# EAGLE library part COCO3-CARTRIDGE-SLOT (library CC-FlexiMIDI-V1R2-12.29.2019)
CoCo 3 Program Pak Cartridge Slot HEADER/SLOT - http://www.GIMEchip.com/ Tandy Radio Shack TRS-80 Color Computer 3 Program Pak Cartridge Slot HEADER/SLOT E.A.G.L.E. Library Part created by John Eric Turner & His Father - sales@gimechip.com <mailto:sales@gimechip.com?subject=Tandy Radio Shack TRS- 80 Color Computer 3 Program Pak Cartridge Slot E.A.G.L.E. Library Part> 40-Pin Header and Slot sharing the same pinout as the Program Pak Cartridge Edge-Card Connector. This library part has been designed to provide a 40-pin cartridge slot connector matching the CoCo's Edge-Card connector (Cartridge Slot). This library part is also useful with the Dragon and other CoCo clones. It is important to note that the CoCo 2 & 3 only provide +5V at the cartridge connector. The CoCo 1 provides +5V AND +/-12V at the cartridge connector. The Dragon provides only +5V and +12V at the cartridge connector. The table below lists all similarities and differences between these machines, relevant to the cartridge slot: PIN # TRS-80 "CoCo 1" Function Tano/Dragon Data "Dragon 32/64" Function TRS-80 "CoCo 2 & 3" Function 1 -12V +12V NC 2 +12V +12V NC 3 HALT* HALT* HALT* 4 NMI* NMI* NMI* 5 RESET* RESET* RESET* 6 E E E 7 Q Q Q 8 CART* CART* CART* 9 +5V +5V +5V 10 D0 D0 D0 11 D1 D1 D1 12 D2 D2 D2 13 D3 D3 D3 14 D4 D4 D4 15 D5 D5 D5 16 D6 D6 D6 17 D7 D7 D7 18 R/W* R/W* R/W* 19 A0 A0 A0 20 A1 A1 A1 21 A2 A2 A2 22 A3 A3 A3 23 A4 A4 A4 24 A5 A5 A5 25 A6 A6 A6 26 A7 A7 A7 27 A8 A8 A8 28 A9 A9 A9 29 A10 A10 A10 30 A11 A11 A11 31 A12 A12 A12 32 CTS* CSEL* CTS* 33 GND GND GND 34 GND GND GND 35 SND SND SND 36 SCS* P2* SCS* 37 A13 A13 A13 38 A14 A14 A14 39 A15 A15 A15 40 SLENB* DSD* SLENB*
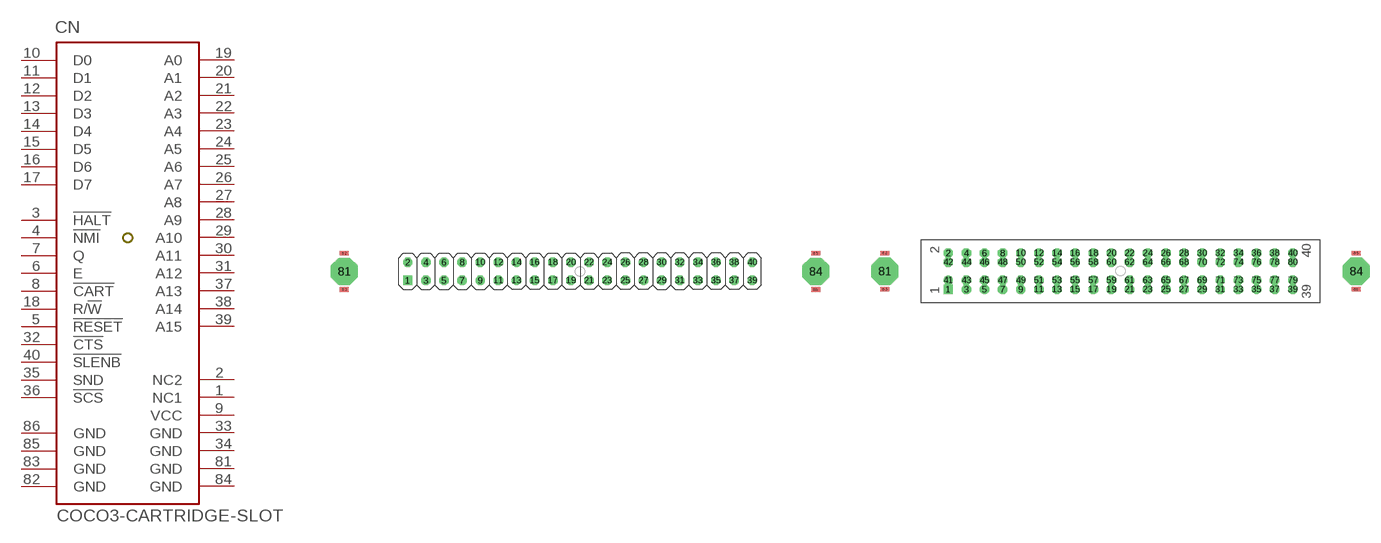
[diagram p1: symbol with the pads of HEADER-2X20-100-STRAIGHT-W/EARS; footprints HEADER-2X20-100-STRAIGHT-W/EARS, HEADER/EDGE-CARD-RECEPTACLE-2X20-100-STRAIGHT-W/EARS]

Designator prefix CN

## COCO3-CARTRIDGE-SLOT-HEADER-40  [HEADER-2X20-100-STRAIGHT-W/EARS]
1  NC1  pwr
2  NC2  pwr
3  !HALT
4  !NMI
5  !RESET
6  E  out
7  Q  out
8  !CART  in
9  VCC  pwr
10  D0
11  D1
12  D2
13  D3
14  D4
15  D5
16  D6
17  D7
18  R/!W
19  A0  out
20  A1  out
21  A2  out
22  A3  out
23  A4  pas
24  A5  out
25  A6  out
26  A7  out
27  A8  out
28  A9  out
29  A10  out
30  A11  out
31  A12  out
32  !CTS  out
33  GND  pwr
34  GND  pwr
35  SND  in
36  !SCS  out
37  A13  out
38  A14  out
39  A15  out
40  !SLENB  in
81  GND  pwr
82  GND  pwr
83  GND  pwr
84  GND  pwr
85  GND  pwr
86  GND  pwr

## COCO3-CARTRIDGE-SLOT-HEADER/SLOT-40  [HEADER/EDGE-CARD-RECEPTACLE-2X20-100-STRAIGHT-W/EARS]
Pads as for HEADER-2X20-100-STRAIGHT-W/EARS

## COCO3-CARTRIDGE-SLOT-SLOT-40  [EDGE-CARD-RECEPTACLE-2X20-100-STRAIGHT-W/EARS]
1  NC1  pwr
2  NC2  pwr
3  !HALT
4  !NMI
5  !RESET
6  E  out
7  Q  out
8  !CART  in
9  VCC  pwr
10  D0
11  D1
12  D2
13  D3
14  D4
15  D5
16  D6
17  D7
18  R/!W
19  A0  out
20  A1  out
21  A2  out
22  A3  out
23  A4  pas
24  A5  out
25  A6  out
26  A7  out
27  A8  out
28  A9  out
29  A10  out
30  A11  out
31  A12  out
32  !CTS  out
33  GND  pwr
34  GND  pwr
35  SND  in
36  !SCS  out
37  A13  out
38  A14  out
39  A15  out
40  !SLENB  in
81  GND  pwr
82  GND  pwr
83  GND  pwr
84  GND  pwr
85  GND  pwr
86  GND  pwr

## COCO3-CARTRIDGE-SLOT-SLOT-40A  [EDGE-CARD-RECEPTACLE-2X20-100-ANGLED-W/EARS]
1  NC1  pwr
2  NC2  pwr
3  !HALT
4  !NMI
5  !RESET
6  E  out
7  Q  out
8  !CART  in
9  VCC  pwr
10  D0
11  D1
12  D2
13  D3
14  D4
15  D5
16  D6
17  D7
18  R/!W
19  A0  out
20  A1  out
21  A2  out
22  A3  out
23  A4  pas
24  A5  out
25  A6  out
26  A7  out
27  A8  out
28  A9  out
29  A10  out
30  A11  out
31  A12  out
32  !CTS  out
33  GND  pwr
34  GND  pwr
35  SND  in
36  !SCS  out
37  A13  out
38  A14  out
39  A15  out
40  !SLENB  in
81  GND  pwr
82  GND  pwr
83  GND  pwr
84  GND  pwr
85  GND  pwr
86  GND  pwr

## COCO3-CARTRIDGE-SLOT-SLOT-40U  [EDGE-CARD-RECEPTACLE-2X20-100-UNIVERSAL-1-W/EARS]
1  NC1  pwr
2  NC2  pwr
3  !HALT
4  !NMI
5  !RESET
6  E  out
7  Q  out
8  !CART  in
9  VCC  pwr
10  D0
11  D1
12  D2
13  D3
14  D4
15  D5
16  D6
17  D7
18  R/!W
19  A0  out
20  A1  out
21  A2  out
22  A3  out
23  A4  pas
24  A5  out
25  A6  out
26  A7  out
27  A8  out
28  A9  out
29  A10  out
30  A11  out
31  A12  out
32  !CTS  out
33  GND  pwr
34  GND  pwr
35  SND  in
36  !SCS  out
37  A13  out
38  A14  out
39  A15  out
40  !SLENB  in
81  GND  pwr
82  GND  pwr
83  GND  pwr
84  GND  pwr
85  GND  pwr
86  GND  pwr

## COCO3-CARTRIDGE-SLOT-SLOT-40U2  [EDGE-CARD-RECEPTACLE-2X20-100-UNIVERSAL2-W/EARS]
1  NC1  pwr
2  NC2  pwr
3  !HALT
4  !NMI
5  !RESET
6  E  out
7  Q  out
8  !CART  in
9  VCC  pwr
10  D0
11  D1
12  D2
13  D3
14  D4
15  D5
16  D6
17  D7
18  R/!W
19  A0  out
20  A1  out
21  A2  out
22  A3  out
23  A4  pas
24  A5  out
25  A6  out
26  A7  out
27  A8  out
28  A9  out
29  A10  out
30  A11  out
31  A12  out
32  !CTS  out
33  GND  pwr
34  GND  pwr
35  SND  in
36  !SCS  out
37  A13  out
38  A14  out
39  A15  out
40  !SLENB  in
81  GND  pwr
82  GND  pwr
83  GND  pwr
84  GND  pwr
85  GND  pwr
86  GND  pwr

## COCO3-CARTRIDGE-SLOT-HEADER/SLOT-40U  [HEADER/EDGE-CARD-RECEPTACLE-2X20-100-UNIVERSAL-W/EARS]
Pads as for EDGE-CARD-RECEPTACLE-2X20-100-UNIVERSAL-1-W/EARS

## COCO3-CARTRIDGE-SLOT-HEADER/SLOT-40U2  [HEADER/EDGE-CARD-RECEPTACLE-2X20-100-UNIVERSAL2-W/EARS]
Pads as for EDGE-CARD-RECEPTACLE-2X20-100-UNIVERSAL2-W/EARS

## COCO3-CARTRIDGE-SLOT-HEADER/SLOT-40A  [HEADER/EDGE-CARD-RECEPTACLE-2X20-100-ANGLED-W/EARS]
1  NC1  pwr
2  NC2  pwr
3  !HALT
4  !NMI
5  !RESET
6  E  out
7  Q  out
8  !CART  in
9  VCC  pwr
10  D0
11  D1
12  D2
13  D3
14  D4
15  D5
16  D6
17  D7
18  R/!W
19  A0  out
20  A1  out
21  A2  out
22  A3  out
23  A4  pas
24  A5  out
25  A6  out
26  A7  out
27  A8  out
28  A9  out
29  A10  out
30  A11  out
31  A12  out
32  !CTS  out
33  GND  pwr
34  GND  pwr
35  SND  in
36  !SCS  out
37  A13  out
38  A14  out
39  A15  out
40  !SLENB  in
81  GND  pwr
82  GND  pwr
83  GND  pwr
84  GND  pwr
85  GND  pwr
86  GND  pwr

## Footprint HEADER-2X20-100-STRAIGHT-W/EARS (pad centres in mm)
CoCo 3 Program Pak Cartridge Header - Straight w/Ears - http://www.RetroZilla.org/ CoCo 3 Program Pak Cartridge Header - Straight w/Ears Copyright ©28 Jan 2013, by: John Eric Turner and his Father. http://www.GIMEchip.com/ sales@GIMEchip.com Licensed to: http://www.RetroZilla.org/ sales@RetroZilla.org RetroZilla.org, LLC component footprints for EAGLE v5.xx. The footprints contained within this library were created by GIMEchip.com and have been licensed to RetroZilla.org, LLC. You may use these footprints in your own projects, however, please take note that we CANNOT guarantee the accuracy of these footprints (nor any part of this library). We make NO guarantees that the footprints or schematic symbols in this library are flawless, and we make no promises of fitness for production, prototyping or any other purpose. These libraries are provided for informational purposes only, and are used at your own discretion. By downloading these libraries, you agree that we cannot be held responsible for faulty PCBs. You should always check the footprints with a 1:1 printout. Neither GIMEchip.com, RetroZilla.org, LLC nor anyone affiliated with same shall be held responsible for any outcome resulting from the usage of these files. Should any errors be found, pleease contact us at one of the above email addresses.
drill 0.813 square: 1 -24.13,-1.27
drill 0.813 octagon: 2 -24.13,1.27; 3 -21.59,-1.27; 4 -21.59,1.27; 5 -19.05,-1.27; 6 -19.05,1.27; 7 -16.51,-1.27; 8 -16.51,1.27; 9 -13.97,-1.27; 10 -13.97,1.27; 11 -11.43,-1.27; 12 -11.43,1.27; 13 -8.89,-1.27; 14 -8.89,1.27; 15 -6.35,-1.27; 16 -6.35,1.27; 17 -3.81,-1.27; 18 -3.81,1.27; 19 -1.27,-1.27; 20 -1.27,1.27; 21 1.27,-1.27; 22 1.27,1.27; 23 3.81,-1.27; 24 3.81,1.27; 25 6.35,-1.27; 26 6.35,1.27; 27 8.89,-1.27; 28 8.89,1.27; 29 11.43,-1.27; 30 11.43,1.27; 31 13.97,-1.27; 32 13.97,1.27; 33 16.51,-1.27; 34 16.51,1.27; 35 19.05,-1.27; 36 19.05,1.27; 37 21.59,-1.27; 38 21.59,1.27; 39 24.13,-1.27; 40 24.13,1.27
drill 2.2 pad 3.81 octagon: 81 -33.02,0; 84 33.02,0
smd 1.27 x 0.635: 82 -33.02,2.54; 83 -33.02,-2.54; 85 33.02,2.54; 86 33.02,-2.54

## Footprint HEADER/EDGE-CARD-RECEPTACLE-2X20-100-STRAIGHT-W/EARS (pad centres in mm)
CoCo 3 Program Pak Cartridge Header/Receptacle (Slot) w/Ears - http://www.RetroZilla.org/ CoCo 3 Program Pak Cartridge Header/Receptacle (Slot) w/Ears This dual-footprint allows the use of either a 40-pin header or a 40-position Slot/Receptacle (Edge-Card Socket). Copyright ©28 Jan 2013, by: John Eric Turner and his Father. http://www.GIMEchip.com/ sales@GIMEchip.com Licensed to: http://www.RetroZilla.org/ sales@RetroZilla.org RetroZilla.org, LLC component footprints for EAGLE v5.xx. The footprints contained within this library were created by GIMEchip.com and have been licensed to RetroZilla.org, LLC. You may use these footprints in your own projects, however, please take note that we CANNOT guarantee the accuracy of these footprints (nor any part of this library). We make NO guarantees that the footprints or schematic symbols in this library are flawless, and we make no promises of fitness for production, prototyping or any other purpose. These libraries are provided for informational purposes only, and are used at your own discretion. By downloading these libraries, you agree that we cannot be held responsible for faulty PCBs. You should always check the footprints with a 1:1 printout. Neither GIMEchip.com, RetroZilla.org, LLC nor anyone affiliated with same shall be held responsible for any outcome resulting from the usage of these files. Should any errors be found, pleease contact us at one of the above email addresses.
drill 0.813 square: 1 -24.13,-2.54
drill 0.813 octagon: 2 -24.13,2.54; 3 -21.59,-2.54; 4 -21.59,2.54; 5 -19.05,-2.54; 6 -19.05,2.54; 7 -16.51,-2.54; 8 -16.51,2.54; 9 -13.97,-2.54; 10 -13.97,2.54; 11 -11.43,-2.54; 12 -11.43,2.54; 13 -8.89,-2.54; 14 -8.89,2.54; 15 -6.35,-2.54; 16 -6.35,2.54; 17 -3.81,-2.54; 18 -3.81,2.54; 19 -1.27,-2.54; 20 -1.27,2.54; 21 1.27,-2.54; 22 1.27,2.54; 23 3.81,-2.54; 24 3.81,2.54; 25 6.35,-2.54; 26 6.35,2.54; 27 8.89,-2.54; 28 8.89,2.54; 29 11.43,-2.54; 30 11.43,2.54; 31 13.97,-2.54; 32 13.97,2.54; 33 16.51,-2.54; 34 16.51,2.54; 35 19.05,-2.54; 36 19.05,2.54; 37 21.59,-2.54; 38 21.59,2.54; 39 24.13,-2.54; 40 24.13,2.54; 42 -24.13,1.27; 43 -21.59,-1.27; 44 -21.59,1.27; 45 -19.05,-1.27; 46 -19.05,1.27; 47 -16.51,-1.27; 48 -16.51,1.27; 49 -13.97,-1.27; 50 -13.97,1.27; 51 -11.43,-1.27; 52 -11.43,1.27; 53 -8.89,-1.27; 54 -8.89,1.27; 55 -6.35,-1.27; 56 -6.35,1.27; 57 -3.81,-1.27; 58 -3.81,1.27; 59 -1.27,-1.27; 60 -1.27,1.27; 61 1.27,-1.27; 62 1.27,1.27; 63 3.81,-1.27; 64 3.81,1.27; 65 6.35,-1.27; 66 6.35,1.27; 67 8.89,-1.27; 68 8.89,1.27; 69 11.43,-1.27; 70 11.43,1.27; 71 13.97,-1.27; 72 13.97,1.27; 73 16.51,-1.27; 74 16.51,1.27; 75 19.05,-1.27; 76 19.05,1.27; 77 21.59,-1.27; 78 21.59,1.27; 79 24.13,-1.27; 80 24.13,1.27
drill 0.813 round: 41 -24.13,-1.27
drill 2.2 pad 3.81 octagon: 81 -33.02,0; 84 33.02,0
smd 1.27 x 0.635: 82 -33.02,2.54; 83 -33.02,-2.54; 85 33.02,2.54; 86 33.02,-2.54

## Footprint EDGE-CARD-RECEPTACLE-2X20-100-STRAIGHT-W/EARS (pad centres in mm)
CoCo 3 Program Pak Cartridge Receptacle/Slot (Edge-Card Socket) - Straight w/Ears - http://www.RetroZilla.org/ CoCo 3 Program Pak Cartridge Receptacle/Slot (Edge-Card Socket) - Straight w/Ears Copyright ©28 Jan 2013, by: John Eric Turner and his Father. http://www.GIMEchip.com/ sales@GIMEchip.com Licensed to: http://www.RetroZilla.org/ sales@RetroZilla.org RetroZilla.org, LLC component footprints for EAGLE v5.xx. The footprints contained within this library were created by GIMEchip.com and have been licensed to RetroZilla.org, LLC. You may use these footprints in your own projects, however, please take note that we CANNOT guarantee the accuracy of these footprints (nor any part of this library). We make NO guarantees that the footprints or schematic symbols in this library are flawless, and we make no promises of fitness for production, prototyping or any other purpose. These libraries are provided for informational purposes only, and are used at your own discretion. By downloading these libraries, you agree that we cannot be held responsible for faulty PCBs. You should always check the footprints with a 1:1 printout. Neither GIMEchip.com, RetroZilla.org, LLC nor anyone affiliated with same shall be held responsible for any outcome resulting from the usage of these files. Should any errors be found, pleease contact us at one of the above email addresses.
drill 0.813 square: 1 -24.13,-2.54
drill 0.813 octagon: 2 -24.13,2.54; 3 -21.59,-2.54; 4 -21.59,2.54; 5 -19.05,-2.54; 6 -19.05,2.54; 7 -16.51,-2.54; 8 -16.51,2.54; 9 -13.97,-2.54; 10 -13.97,2.54; 11 -11.43,-2.54; 12 -11.43,2.54; 13 -8.89,-2.54; 14 -8.89,2.54; 15 -6.35,-2.54; 16 -6.35,2.54; 17 -3.81,-2.54; 18 -3.81,2.54; 19 -1.27,-2.54; 20 -1.27,2.54; 21 1.27,-2.54; 22 1.27,2.54; 23 3.81,-2.54; 24 3.81,2.54; 25 6.35,-2.54; 26 6.35,2.54; 27 8.89,-2.54; 28 8.89,2.54; 29 11.43,-2.54; 30 11.43,2.54; 31 13.97,-2.54; 32 13.97,2.54; 33 16.51,-2.54; 34 16.51,2.54; 35 19.05,-2.54; 36 19.05,2.54; 37 21.59,-2.54; 38 21.59,2.54; 39 24.13,-2.54; 40 24.13,2.54
drill 2.2 pad 3.81 octagon: 81 -33.02,0; 84 33.02,0
smd 1.27 x 0.635: 82 -33.02,-2.54; 83 -33.02,2.54; 85 33.02,2.54; 86 33.02,-2.54

## Footprint EDGE-CARD-RECEPTACLE-2X20-100-ANGLED-W/EARS (pad centres in mm)
CoCo 3 Program Pak Cartridge Receptacle/Slot (Edge-Card Socket) - Angled w/Ears - http://www.RetroZilla.org/ CoCo 3 Program Pak Cartridge Receptacle/Slot (Edge-Card Socket) - Angled w/Ears Copyright ©28 Jan 2013, by: John Eric Turner and his Father. http://www.GIMEchip.com/ sales@GIMEchip.com Licensed to: http://www.RetroZilla.org/ sales@RetroZilla.org RetroZilla.org, LLC component footprints for EAGLE v5.xx. The footprints contained within this library were created by GIMEchip.com and have been licensed to RetroZilla.org, LLC. You may use these footprints in your own projects, however, please take note that we CANNOT guarantee the accuracy of these footprints (nor any part of this library). We make NO guarantees that the footprints or schematic symbols in this library are flawless, and we make no promises of fitness for production, prototyping or any other purpose. These libraries are provided for informational purposes only, and are used at your own discretion. By downloading these libraries, you agree that we cannot be held responsible for faulty PCBs. You should always check the footprints with a 1:1 printout. Neither GIMEchip.com, RetroZilla.org, LLC nor anyone affiliated with same shall be held responsible for any outcome resulting from the usage of these files. Should any errors be found, pleease contact us at one of the above email addresses.
drill 0.813 square: 1 -24.13,-2.54
drill 0.813 octagon: 2 -24.13,2.54; 3 -21.59,-2.54; 4 -21.59,2.54; 5 -19.05,-2.54; 6 -19.05,2.54; 7 -16.51,-2.54; 8 -16.51,2.54; 9 -13.97,-2.54; 10 -13.97,2.54; 11 -11.43,-2.54; 12 -11.43,2.54; 13 -8.89,-2.54; 14 -8.89,2.54; 15 -6.35,-2.54; 16 -6.35,2.54; 17 -3.81,-2.54; 18 -3.81,2.54; 19 -1.27,-2.54; 20 -1.27,2.54; 21 1.27,-2.54; 22 1.27,2.54; 23 3.81,-2.54; 24 3.81,2.54; 25 6.35,-2.54; 26 6.35,2.54; 27 8.89,-2.54; 28 8.89,2.54; 29 11.43,-2.54; 30 11.43,2.54; 31 13.97,-2.54; 32 13.97,2.54; 33 16.51,-2.54; 34 16.51,2.54; 35 19.05,-2.54; 36 19.05,2.54; 37 21.59,-2.54; 38 21.59,2.54; 39 24.13,-2.54; 40 24.13,2.54
smd 0.635 x 1.27: 81 -35.56,10.16; 83 -30.48,10.16; 84 30.48,10.16; 86 35.56,10.16
drill 2.2 pad 3.81 octagon: 82 -33.02,10.16; 85 33.02,10.16

## Footprint EDGE-CARD-RECEPTACLE-2X20-100-UNIVERSAL-1-W/EARS (pad centres in mm)
CoCo 3 Program Pak Cartridge Receptacle/Slot (Edge-Card Socket) - Universal Straight or Angled w/Ears - http://www.RetroZilla.org/ CoCo 3 Program Pak Cartridge Receptacle/Slot (Edge-Card Socket) - Universal Straight or Angled w/Ears Copyright ©28 Jan 2013, by: John Eric Turner and his Father. http://www.GIMEchip.com/ sales@GIMEchip.com Licensed to: http://www.RetroZilla.org/ sales@RetroZilla.org RetroZilla.org, LLC component footprints for EAGLE v5.xx. The footprints contained within this library were created by GIMEchip.com and have been licensed to RetroZilla.org, LLC. You may use these footprints in your own projects, however, please take note that we CANNOT guarantee the accuracy of these footprints (nor any part of this library). We make NO guarantees that the footprints or schematic symbols in this library are flawless, and we make no promises of fitness for production, prototyping or any other purpose. These libraries are provided for informational purposes only, and are used at your own discretion. By downloading these libraries, you agree that we cannot be held responsible for faulty PCBs. You should always check the footprints with a 1:1 printout. Neither GIMEchip.com, RetroZilla.org, LLC nor anyone affiliated with same shall be held responsible for any outcome resulting from the usage of these files. Should any errors be found, pleease contact us at one of the above email addresses.
drill 0.813 square: 1 -24.13,-2.54
drill 0.813 octagon: 2 -24.13,2.54; 3 -21.59,-2.54; 4 -21.59,2.54; 5 -19.05,-2.54; 6 -19.05,2.54; 7 -16.51,-2.54; 8 -16.51,2.54; 9 -13.97,-2.54; 10 -13.97,2.54; 11 -11.43,-2.54; 12 -11.43,2.54; 13 -8.89,-2.54; 14 -8.89,2.54; 15 -6.35,-2.54; 16 -6.35,2.54; 17 -3.81,-2.54; 18 -3.81,2.54; 19 -1.27,-2.54; 20 -1.27,2.54; 21 1.27,-2.54; 22 1.27,2.54; 23 3.81,-2.54; 24 3.81,2.54; 25 6.35,-2.54; 26 6.35,2.54; 27 8.89,-2.54; 28 8.89,2.54; 29 11.43,-2.54; 30 11.43,2.54; 31 13.97,-2.54; 32 13.97,2.54; 33 16.51,-2.54; 34 16.51,2.54; 35 19.05,-2.54; 36 19.05,2.54; 37 21.59,-2.54; 38 21.59,2.54; 39 24.13,-2.54; 40 24.13,2.54
drill 2.2 pad 3.81 octagon: 81 -33.02,0; 83 -33.02,10.16; 85 33.02,0; 86 33.02,10.16
smd 0.635 x 1.27: 82 -30.48,0; 84 30.48,0

## Footprint EDGE-CARD-RECEPTACLE-2X20-100-UNIVERSAL2-W/EARS (pad centres in mm)
CoCo 3 Program Pak Cartridge Receptacle/Slot (Edge-Card Socket) - Universal Straight or Angled (Left or Right) w/Ears - http://www.RetroZilla.org/ CoCo 3 Program Pak Cartridge Receptacle/Slot (Edge-Card Socket) - Universal Straight or Angled (Left or Right) w/Ears Copyright ©28 Jan 2013, by: John Eric Turner and his Father. http://www.GIMEchip.com/ sales@GIMEchip.com Licensed to: http://www.RetroZilla.org/ sales@RetroZilla.org RetroZilla.org, LLC component footprints for EAGLE v5.xx. The footprints contained within this library were created by GIMEchip.com and have been licensed to RetroZilla.org, LLC. You may use these footprints in your own projects, however, please take note that we CANNOT guarantee the accuracy of these footprints (nor any part of this library). We make NO guarantees that the footprints or schematic symbols in this library are flawless, and we make no promises of fitness for production, prototyping or any other purpose. These libraries are provided for informational purposes only, and are used at your own discretion. By downloading these libraries, you agree that we cannot be held responsible for faulty PCBs. You should always check the footprints with a 1:1 printout. Neither GIMEchip.com, RetroZilla.org, LLC nor anyone affiliated with same shall be held responsible for any outcome resulting from the usage of these files. Should any errors be found, pleease contact us at one of the above email addresses.
drill 0.813 square: 1 -24.13,-2.54
drill 0.813 octagon: 2 -24.13,2.54; 3 -21.59,-2.54; 4 -21.59,2.54; 5 -19.05,-2.54; 6 -19.05,2.54; 7 -16.51,-2.54; 8 -16.51,2.54; 9 -13.97,-2.54; 10 -13.97,2.54; 11 -11.43,-2.54; 12 -11.43,2.54; 13 -8.89,-2.54; 14 -8.89,2.54; 15 -6.35,-2.54; 16 -6.35,2.54; 17 -3.81,-2.54; 18 -3.81,2.54; 19 -1.27,-2.54; 20 -1.27,2.54; 21 1.27,-2.54; 22 1.27,2.54; 23 3.81,-2.54; 24 3.81,2.54; 25 6.35,-2.54; 26 6.35,2.54; 27 8.89,-2.54; 28 8.89,2.54; 29 11.43,-2.54; 30 11.43,2.54; 31 13.97,-2.54; 32 13.97,2.54; 33 16.51,-2.54; 34 16.51,2.54; 35 19.05,-2.54; 36 19.05,2.54; 37 21.59,-2.54; 38 21.59,2.54; 39 24.13,-2.54; 40 24.13,2.54
drill 2.2 pad 3.81 octagon: 81 -33.02,0; 82 -33.02,10.16; 83 -33.02,-10.16; 84 33.02,0; 85 33.02,10.16; 86 33.02,-10.16

## Footprint HEADER/EDGE-CARD-RECEPTACLE-2X20-100-UNIVERSAL-W/EARS (pad centres in mm)
CoCo 3 Program Pak Cartridge Header/Receptacle (Slot) Universal Straight or Angled w/Ears - http://www.RetroZilla.org/ CoCo 3 Program Pak Cartridge Header/Receptacle (Slot) Universal Straight or Angled w/Ears This dual-footprint allows the use of either a 40-pin header or a 40-position Slot/Receptacle (Edge-Card Socket). Copyright ©28 Jan 2013, by: John Eric Turner and his Father. http://www.GIMEchip.com/ sales@GIMEchip.com Licensed to: http://www.RetroZilla.org/ sales@RetroZilla.org RetroZilla.org, LLC component footprints for EAGLE v5.xx. The footprints contained within this library were created by GIMEchip.com and have been licensed to RetroZilla.org, LLC. You may use these footprints in your own projects, however, please take note that we CANNOT guarantee the accuracy of these footprints (nor any part of this library). We make NO guarantees that the footprints or schematic symbols in this library are flawless, and we make no promises of fitness for production, prototyping or any other purpose. These libraries are provided for informational purposes only, and are used at your own discretion. By downloading these libraries, you agree that we cannot be held responsible for faulty PCBs. You should always check the footprints with a 1:1 printout. Neither GIMEchip.com, RetroZilla.org, LLC nor anyone affiliated with same shall be held responsible for any outcome resulting from the usage of these files. Should any errors be found, pleease contact us at one of the above email addresses.
drill 0.813 square: 1 -24.13,-2.54
drill 0.813 octagon: 2 -24.13,2.54; 3 -21.59,-2.54; 4 -21.59,2.54; 5 -19.05,-2.54; 6 -19.05,2.54; 7 -16.51,-2.54; 8 -16.51,2.54; 9 -13.97,-2.54; 10 -13.97,2.54; 11 -11.43,-2.54; 12 -11.43,2.54; 13 -8.89,-2.54; 14 -8.89,2.54; 15 -6.35,-2.54; 16 -6.35,2.54; 17 -3.81,-2.54; 18 -3.81,2.54; 19 -1.27,-2.54; 20 -1.27,2.54; 21 1.27,-2.54; 22 1.27,2.54; 23 3.81,-2.54; 24 3.81,2.54; 25 6.35,-2.54; 26 6.35,2.54; 27 8.89,-2.54; 28 8.89,2.54; 29 11.43,-2.54; 30 11.43,2.54; 31 13.97,-2.54; 32 13.97,2.54; 33 16.51,-2.54; 34 16.51,2.54; 35 19.05,-2.54; 36 19.05,2.54; 37 21.59,-2.54; 38 21.59,2.54; 39 24.13,-2.54; 40 24.13,2.54; 42 -24.13,1.27; 43 -21.59,-1.27; 44 -21.59,1.27; 45 -19.05,-1.27; 46 -19.05,1.27; 47 -16.51,-1.27; 48 -16.51,1.27; 49 -13.97,-1.27; 50 -13.97,1.27; 51 -11.43,-1.27; 52 -11.43,1.27; 53 -8.89,-1.27; 54 -8.89,1.27; 55 -6.35,-1.27; 56 -6.35,1.27; 57 -3.81,-1.27; 58 -3.81,1.27; 59 -1.27,-1.27; 60 -1.27,1.27; 61 1.27,-1.27; 62 1.27,1.27; 63 3.81,-1.27; 64 3.81,1.27; 65 6.35,-1.27; 66 6.35,1.27; 67 8.89,-1.27; 68 8.89,1.27; 69 11.43,-1.27; 70 11.43,1.27; 71 13.97,-1.27; 72 13.97,1.27; 73 16.51,-1.27; 74 16.51,1.27; 75 19.05,-1.27; 76 19.05,1.27; 77 21.59,-1.27; 78 21.59,1.27; 79 24.13,-1.27; 80 24.13,1.27
drill 0.813 round: 41 -24.13,-1.27
drill 2.2 pad 3.81 octagon: 81 -33.02,0; 83 -33.02,10.16; 85 33.02,0; 86 33.02,10.16
smd 0.635 x 1.27: 82 -30.48,0; 84 30.48,0

## Footprint HEADER/EDGE-CARD-RECEPTACLE-2X20-100-UNIVERSAL2-W/EARS (pad centres in mm)
CoCo 3 Program Pak Cartridge Header/Receptacle (Slot) Universal Straight or Angled (Left or Right) w/Ears - http://www.RetroZilla.org/ CoCo 3 Program Pak Cartridge Header/Receptacle (Slot) Universal Straight or Angled (Left or Right) w/Ears This dual-footprint allows the use of either a 40-pin header or a 40-position Slot/Receptacle (Edge-Card Socket). Copyright ©28 Jan 2013, by: John Eric Turner and his Father. http://www.GIMEchip.com/ sales@GIMEchip.com Licensed to: http://www.RetroZilla.org/ sales@RetroZilla.org RetroZilla.org, LLC component footprints for EAGLE v5.xx. The footprints contained within this library were created by GIMEchip.com and have been licensed to RetroZilla.org, LLC. You may use these footprints in your own projects, however, please take note that we CANNOT guarantee the accuracy of these footprints (nor any part of this library). We make NO guarantees that the footprints or schematic symbols in this library are flawless, and we make no promises of fitness for production, prototyping or any other purpose. These libraries are provided for informational purposes only, and are used at your own discretion. By downloading these libraries, you agree that we cannot be held responsible for faulty PCBs. You should always check the footprints with a 1:1 printout. Neither GIMEchip.com, RetroZilla.org, LLC nor anyone affiliated with same shall be held responsible for any outcome resulting from the usage of these files. Should any errors be found, pleease contact us at one of the above email addresses.
drill 0.813 square: 1 -24.13,-2.54
drill 0.813 octagon: 2 -24.13,2.54; 3 -21.59,-2.54; 4 -21.59,2.54; 5 -19.05,-2.54; 6 -19.05,2.54; 7 -16.51,-2.54; 8 -16.51,2.54; 9 -13.97,-2.54; 10 -13.97,2.54; 11 -11.43,-2.54; 12 -11.43,2.54; 13 -8.89,-2.54; 14 -8.89,2.54; 15 -6.35,-2.54; 16 -6.35,2.54; 17 -3.81,-2.54; 18 -3.81,2.54; 19 -1.27,-2.54; 20 -1.27,2.54; 21 1.27,-2.54; 22 1.27,2.54; 23 3.81,-2.54; 24 3.81,2.54; 25 6.35,-2.54; 26 6.35,2.54; 27 8.89,-2.54; 28 8.89,2.54; 29 11.43,-2.54; 30 11.43,2.54; 31 13.97,-2.54; 32 13.97,2.54; 33 16.51,-2.54; 34 16.51,2.54; 35 19.05,-2.54; 36 19.05,2.54; 37 21.59,-2.54; 38 21.59,2.54; 39 24.13,-2.54; 40 24.13,2.54; 42 -24.13,1.27; 43 -21.59,-1.27; 44 -21.59,1.27; 45 -19.05,-1.27; 46 -19.05,1.27; 47 -16.51,-1.27; 48 -16.51,1.27; 49 -13.97,-1.27; 50 -13.97,1.27; 51 -11.43,-1.27; 52 -11.43,1.27; 53 -8.89,-1.27; 54 -8.89,1.27; 55 -6.35,-1.27; 56 -6.35,1.27; 57 -3.81,-1.27; 58 -3.81,1.27; 59 -1.27,-1.27; 60 -1.27,1.27; 61 1.27,-1.27; 62 1.27,1.27; 63 3.81,-1.27; 64 3.81,1.27; 65 6.35,-1.27; 66 6.35,1.27; 67 8.89,-1.27; 68 8.89,1.27; 69 11.43,-1.27; 70 11.43,1.27; 71 13.97,-1.27; 72 13.97,1.27; 73 16.51,-1.27; 74 16.51,1.27; 75 19.05,-1.27; 76 19.05,1.27; 77 21.59,-1.27; 78 21.59,1.27; 79 24.13,-1.27; 80 24.13,1.27
drill 0.813 round: 41 -24.13,-1.27
drill 2.2 pad 3.81 octagon: 81 -33.02,0; 82 -33.02,10.16; 83 -33.02,-10.16; 84 33.02,0; 85 33.02,10.16; 86 33.02,-10.16

## Footprint HEADER/EDGE-CARD-RECEPTACLE-2X20-100-ANGLED-W/EARS (pad centres in mm)
CoCo 3 Program Pak Cartridge Header/Receptacle (Slot) - Angled w/Ears - http://www.RetroZilla.org/ CoCo 3 Program Pak Cartridge Header/Receptacle (Slot) - Angled w/Ears This dual-footprint allows the use of either a 40-pin header or a 40-position Slot/Receptacle (Edge-Card Socket). Copyright ©28 Jan 2013, by: John Eric Turner and his Father. http://www.GIMEchip.com/ sales@GIMEchip.com Licensed to: http://www.RetroZilla.org/ sales@RetroZilla.org RetroZilla.org, LLC component footprints for EAGLE v5.xx. The footprints contained within this library were created by GIMEchip.com and have been licensed to RetroZilla.org, LLC. You may use these footprints in your own projects, however, please take note that we CANNOT guarantee the accuracy of these footprints (nor any part of this library). We make NO guarantees that the footprints or schematic symbols in this library are flawless, and we make no promises of fitness for production, prototyping or any other purpose. These libraries are provided for informational purposes only, and are used at your own discretion. By downloading these libraries, you agree that we cannot be held responsible for faulty PCBs. You should always check the footprints with a 1:1 printout. Neither GIMEchip.com, RetroZilla.org, LLC nor anyone affiliated with same shall be held responsible for any outcome resulting from the usage of these files. Should any errors be found, pleease contact us at one of the above email addresses.
drill 0.813 square: 1 -24.13,-2.54
drill 0.813 octagon: 2 -24.13,2.54; 3 -21.59,-2.54; 4 -21.59,2.54; 5 -19.05,-2.54; 6 -19.05,2.54; 7 -16.51,-2.54; 8 -16.51,2.54; 9 -13.97,-2.54; 10 -13.97,2.54; 11 -11.43,-2.54; 12 -11.43,2.54; 13 -8.89,-2.54; 14 -8.89,2.54; 15 -6.35,-2.54; 16 -6.35,2.54; 17 -3.81,-2.54; 18 -3.81,2.54; 19 -1.27,-2.54; 20 -1.27,2.54; 21 1.27,-2.54; 22 1.27,2.54; 23 3.81,-2.54; 24 3.81,2.54; 25 6.35,-2.54; 26 6.35,2.54; 27 8.89,-2.54; 28 8.89,2.54; 29 11.43,-2.54; 30 11.43,2.54; 31 13.97,-2.54; 32 13.97,2.54; 33 16.51,-2.54; 34 16.51,2.54; 35 19.05,-2.54; 36 19.05,2.54; 37 21.59,-2.54; 38 21.59,2.54; 39 24.13,-2.54; 40 24.13,2.54; 42 -24.13,1.27; 43 -21.59,-1.27; 44 -21.59,1.27; 45 -19.05,-1.27; 46 -19.05,1.27; 47 -16.51,-1.27; 48 -16.51,1.27; 49 -13.97,-1.27; 50 -13.97,1.27; 51 -11.43,-1.27; 52 -11.43,1.27; 53 -8.89,-1.27; 54 -8.89,1.27; 55 -6.35,-1.27; 56 -6.35,1.27; 57 -3.81,-1.27; 58 -3.81,1.27; 59 -1.27,-1.27; 60 -1.27,1.27; 61 1.27,-1.27; 62 1.27,1.27; 63 3.81,-1.27; 64 3.81,1.27; 65 6.35,-1.27; 66 6.35,1.27; 67 8.89,-1.27; 68 8.89,1.27; 69 11.43,-1.27; 70 11.43,1.27; 71 13.97,-1.27; 72 13.97,1.27; 73 16.51,-1.27; 74 16.51,1.27; 75 19.05,-1.27; 76 19.05,1.27; 77 21.59,-1.27; 78 21.59,1.27; 79 24.13,-1.27; 80 24.13,1.27
drill 0.813 round: 41 -24.13,-1.27
drill 2.2 pad 3.81 octagon: 81 -33.02,10.16; 85 33.02,10.16
smd 0.635 x 1.27: 82 -35.56,10.16; 83 -30.48,10.16; 84 30.48,10.16; 86 35.56,10.16